# EAGLE library part AM26LV32E (library texas)
IC RCVR DIFF QUAD LV HS
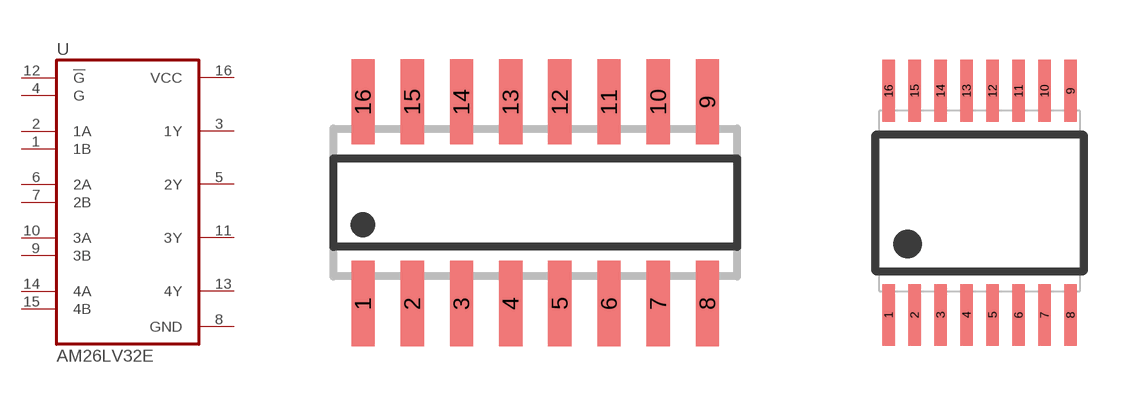
[diagram p89: symbol with the pads of SO16; footprints SO16, TSSOP16]

Designator prefix U

## AM26LV32ED  [SO16]
1  1B  in
2  1A  in
3  1Y  out
4  G  in
5  2Y  out
6  2A  in
7  2B  in
8  GND  pwr
9  3B  in
10  3A  in
11  3Y  out
12  !G!  in
13  4Y  out
14  4A  in
15  4B  in
16  VCC  pwr

## AM26LV32EPW  [TSSOP16]
Pads as for SO16

## Footprint SO16 (pad centres in mm)
SMALL OUTLINE INTEGRATED CIRCUIT body 3.9 mm/JEDEC MS-012AC
smd 0.6 x 2.2: 1 -4.445,-2.6; 2 -3.175,-2.6; 3 -1.905,-2.6; 4 -0.635,-2.6; 5 0.635,-2.6; 6 1.905,-2.6; 7 3.175,-2.6; 8 4.445,-2.6; 9 4.445,2.6; 10 3.175,2.6; 11 1.905,2.6; 12 0.635,2.6; 13 -0.635,2.6; 14 -1.905,2.6; 15 -3.175,2.6; 16 -4.445,2.6

## Footprint TSSOP16 (pad centres in mm)
Thin Shrink Small Outline Plastic 16
smd 0.31 x 1.55: 1 -2.275,-2.8; 2 -1.625,-2.8; 3 -0.975,-2.8; 4 -0.325,-2.8; 5 0.325,-2.8; 6 0.975,-2.8; 7 1.625,-2.8; 8 2.275,-2.8; 9 2.275,2.8; 10 1.625,2.8; 11 0.975,2.8; 12 0.325,2.8; 13 -0.325,2.8; 14 -0.975,2.8; 15 -1.625,2.8; 16 -2.275,2.8